# Altium schematic symbol library LM2734.SchLib: 1 symbol
Pins are listed as number, name and electrical type; pins without a type are passive.

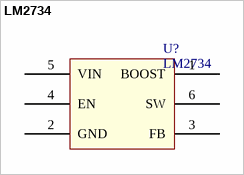
[diagram p0: symbol LM2734]

## LM2734
designator U?
Dual Rail-to-Rail I/O Operational Amplifier
pins: 1 BOOST, 2 GND, 3 FB, 4 EN, 5 VIN, 6 SW